# EAGLE library part TI-CSD25302Q2_DQK_6 (library DECADE-libraries)
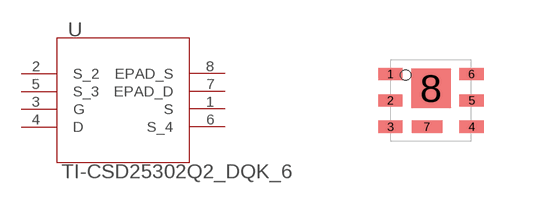
[diagram p22: symbol with the pads of DQK6; footprint DQK6]

Designator prefix U

## TI-CSD25302Q2_DQK_6 (DATASHEETURL: http://www.ti.com/lit/gpn/CSD25302Q2; DESCRIPTION: P-Channel NexFET? Power MOSFET; FAMILY_NAME: P-Channel MOSFET Transistors; GENERIC_PART_NUMBER: CSD25302Q2; INDUSTRY_STD_PKG_TYPE: SON; MANUFACTURER: Texas Instruments; PACKAGE_DESIGNATOR: DQK; PIN_COUNT: 6)  [DQK6]
1  S  pas
2  S_2  pas
3  G  pas
4  D  pas
5  S_3  pas
6  S_4  pas
7  EPAD_D  pwr
8  EPAD_S  pwr

## Footprint DQK6 (pad centres in mm)
smd 0.61 x 0.305: 1 -1.016,0.66; 2 -1.016,0; 3 -1.016,-0.66; 4 1.016,-0.66; 5 1.016,0; 6 1.016,0.66
smd 0.762 x 0.305: 7 -0.102,-0.66
smd 0.991 x 0.991: 8 0,0.305